# Altium footprint library Single_Channel_fNIRS.PcbLib: 18 footprints (part 2 of 2)
Each footprint in its own frame and in the unit in brackets; x right, y up, seen from the top. Pads: shape width x height; smd on the part's side, far side on the other; paste and mask are expansions set on the pad; w line width, h text height; cw(c..) or ccw(c..) is an arc to the next point about the centre after c.
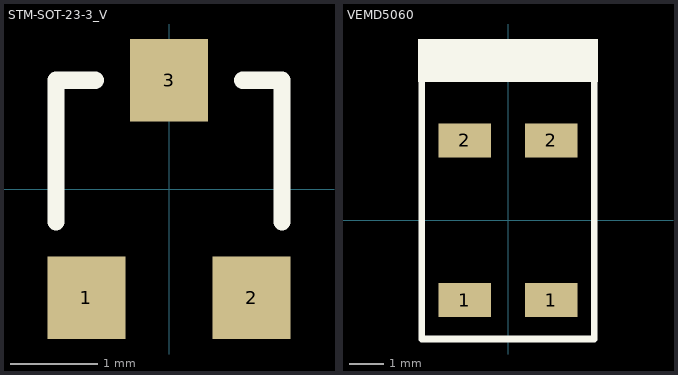
[diagram p1: the footprints below, top view; thin cyan lines are the x and y axes]

## STM-SOT-23-3_V [mm] "SOT23, 3-Leads, Body 3.016x2.8mm, Pitch 0.95mm"
pads (3):
  rect 0.9x0.95 smd: 1(-0.95,-1.25) 2(0.95,-1.25) 3(0,1.25)
Top Overlay:
  lines w0.2: -1.3,-0.375 -1.3,1.25 -0.85,1.25 ; 0.85,1.25 1.3,1.25 1.3,-0.375
Mechanical 13:
  region: 1.225,-1.275 0.625,-1.275 0.625,-1.525 1.225,-1.525
  region: -0.625,-1.275 -1.225,-1.275 -1.225,-1.525 -0.625,-1.525
  rectangle: -0.3,1.25 0.3,1.5

## VEMD5060 [mm]
pads (4):
  rect 1.55x1 smd: 1(-1.27,-2.349) 1(1.27,-2.349) 2(-1.27,2.349) 2(1.27,2.349)
Top Overlay:
  rectangle: -2.642,4.064 2.642,5.334
  lines w0.2: -1.17,4.7 2.54,4.7 2.54,-3.492 -2.54,-3.492 -2.54,4.7 1.18,4.7
  lines w0.254: -2.456,4.201 2.37,4.201 ; -2.456,4.328 2.37,4.328 ; -2.413,4.508 2.413,4.508